# Altium footprint library modules.PcbLib: 1 footprints
Each footprint in its own frame and in the unit in brackets; x right, y up, seen from the top. Pads: shape width x height; smd on the part's side, far side on the other; paste and mask are expansions set on the pad; w line width, h text height; cw(c..) or ccw(c..) is an arc to the next point about the centre after c.
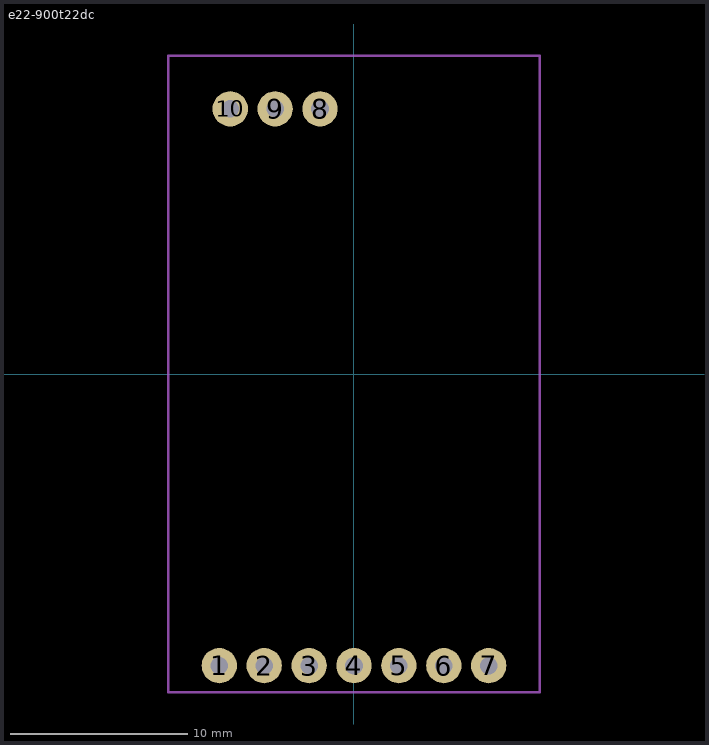
[diagram p0: the footprint, top view; thin cyan lines are the x and y axes]

## e22-900t22dc [mm]
pads (10):
  round 2 hole 1 paste-1: 1(-7.62,-16.5) 2(-5.08,-16.5) 3(-2.54,-16.5) 4(0,-16.5) 5(2.54,-16.5) 6(5.08,-16.5) 7(7.62,-16.5) 8(-1.92,15) 9(-4.46,15) 10(-7,15)
Mechanical 13:
  lines w0.15: -10.5,-18 10.5,-18 10.5,18 -10.5,18 -10.5,-18
3D body: height 10, standoff 0, extent -10.5,-18 10.5,18